# Altium schematic symbol library Encoders.SchLib: 1 symbol
Pins are listed as number, name and electrical type; pins without a type are passive.

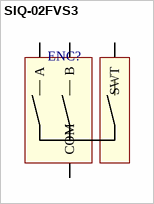
[diagram p0: symbol SIQ-02FVS3]

## SIQ-02FVS3
designator ENC?  (value not drawn)
Mechanical encoder with switch
footprint SIQ-02FVS3 (Mechanical encoder with switch)
pins: COM, ENC_A A, ENC_B B, SWT